# Altium footprint library AG.Modules.PcbLib: 7 footprints
Each footprint in its own frame and in the unit in brackets; x right, y up, seen from the top. Pads: shape width x height; smd on the part's side, far side on the other; paste and mask are expansions set on the pad; w line width, h text height; cw(c..) or ccw(c..) is an arc to the next point about the centre after c.
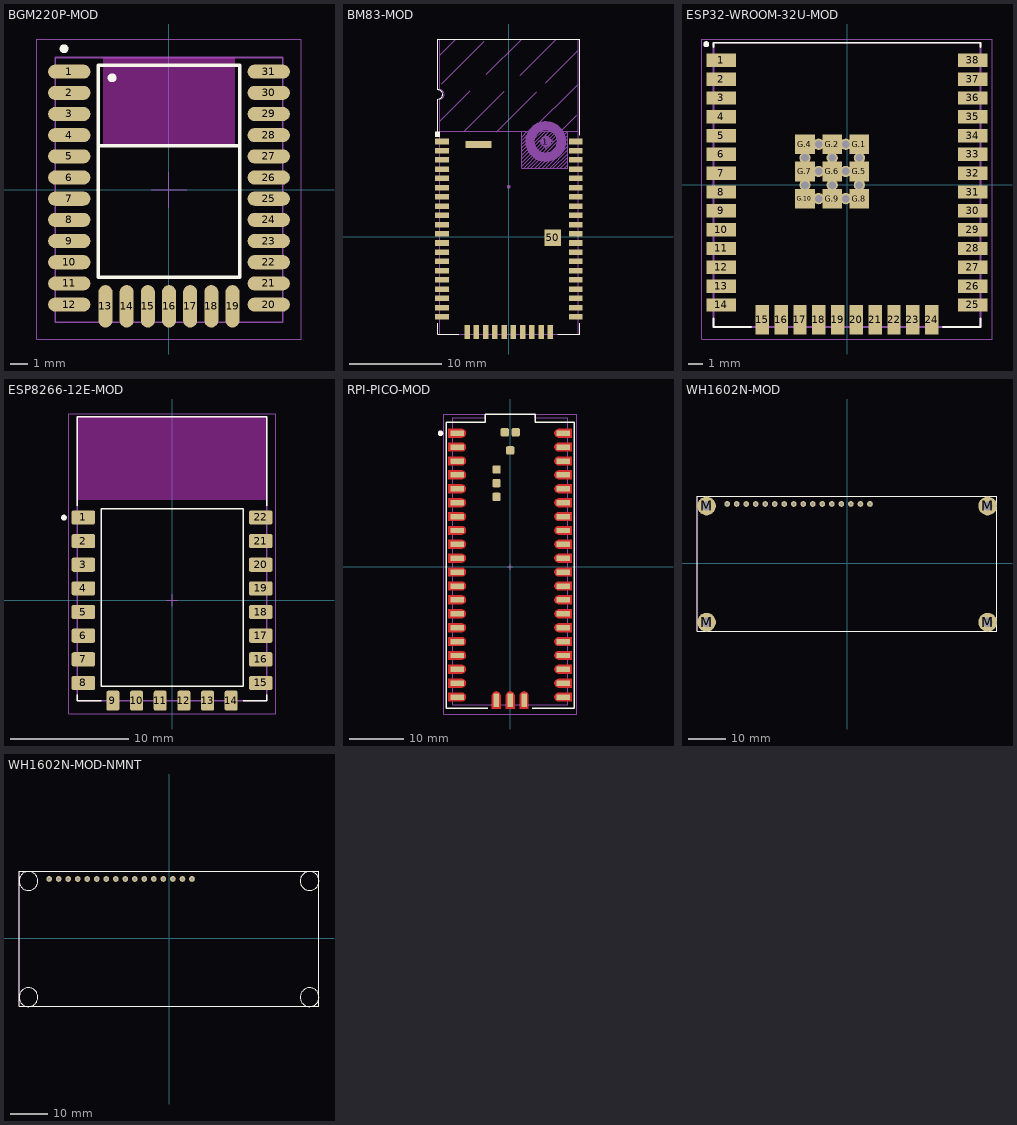
[diagram p0: the footprints below, top view; thin cyan lines are the x and y axes]

## BGM220P-MOD [mm]
height 2.4
pads (31):
  oval 2.4x0.8 smd: 1(-5.65,6.7) 2(-5.65,5.5) 3(-5.65,4.3) 4(-5.65,3.1) 5(-5.65,1.9) 6(-5.65,0.7) 7(-5.65,-0.5) 8(-5.65,-1.7) 9(-5.65,-2.9) 10(-5.65,-4.1) 11(-5.65,-5.3) 12(-5.65,-6.5) 20(5.65,-6.5) 21(5.65,-5.3) 22(5.65,-4.1) 23(5.65,-2.9) 24(5.65,-1.7) 25(5.65,-0.5) 26(5.65,0.7) 27(5.65,1.9) 28(5.65,3.1) 29(5.65,4.3) 30(5.65,5.5) 31(5.65,6.7)
  oval 0.8x2.4 smd: 13(-3.6,-6.6) 14(-2.4,-6.6) 15(-1.2,-6.6) 16(0,-6.6) 17(1.2,-6.6) 18(2.4,-6.6) 19(3.6,-6.6)
Top Overlay:
  circle w0.25: c-5.95,8 r0.125
  circle w0.25: c-3.225,6.35 r0.125
  lines w0.2: -4,2.5 4,2.5 ; -4,-4.95 4,-4.95 4,7.05 -4,7.05 -4,-4.95
Keep-Out Layer:
  rectangle: -3.75,2.6 3.75,7.5
Mechanical 13:
  lines w0.1: -6.45,-7.5 6.45,-7.5 6.45,7.5 -6.45,7.5 -6.45,-7.5
Mechanical 15:
  lines w0.051: -1,0 1,0 ; 0,-1 0,1 ; -7.5,-8.45 -7.5,8.55 7.5,8.55 7.5,-8.45 -7.5,-8.45
3D body "BGM220P.STEP": height 2.3, standoff 0.05, extent -6.45,-7.5 6.45,7.5

## BM83-MOD [mm] "BM83 Bluetooth Audio Module"
height 2
pads (54):
  rect 1.5x0.6 smd: 1(-7.25,10.325) 2(-7.25,9.325) 3(-7.25,8.325) 4(-7.25,7.325) 5(-7.25,6.325) 6(-7.25,5.325) 7(-7.25,4.325) 8(-7.25,3.325) 9(-7.25,2.325) 10(-7.25,1.325) 11(-7.25,0.325) 12(-7.25,-0.675) 13(-7.25,-1.675) 14(-7.25,-2.675) 15(-7.25,-3.675) 16(-7.25,-4.675) 17(-7.25,-5.675) 18(-7.25,-6.675) 19(-7.25,-7.675) 20(-7.25,-8.675) 31(7.25,-8.675) 32(7.25,-7.675) 33(7.25,-6.675) 34(7.25,-5.675) 35(7.25,-4.675) 36(7.25,-3.675) 37(7.25,-2.675) 38(7.25,-1.675) 39(7.25,-0.675) 40(7.25,0.325) 41(7.25,1.325) 42(7.25,2.325) 43(7.25,3.325) 44(7.25,4.325) 45(7.25,5.325) 46(7.25,6.325) 47(7.25,7.325) 48(7.25,8.325) 49(7.25,9.325) 50(7.25,10.325)
  round 0.4 on Mech15 mask+0: 1(0,5.425)
  round 1.2 on Mech9: 1(4,10.323)
  rect 0.6x1.5 smd: 21(-4.5,-10.325) 22(-3.5,-10.325) 23(-2.5,-10.325) 24(-1.5,-10.325) 25(-0.5,-10.325) 26(0.5,-10.325) 27(1.5,-10.325) 28(2.5,-10.325) 29(3.5,-10.325) 30(4.5,-10.325)
  rect 2.794x0.762 smd paste-0.762: 50(-3.29,10.006)
  rect 1.778x1.778 smd paste-0.254: 50(4.768,-0.11)
Top Overlay:
  region: -7.45,11.425 -8,11.425 -8,10.825 -7.45,10.825
  lines w0.127: -7.67,-9.375 -7.67,-10.575 -5.4,-10.575 ; -7.67,11.425 -7.67,14.925 ccw(c-7.67,15.425) -7.17,15.425 ccw(c-7.67,15.425) -7.67,15.925 -7.67,21.425 7.67,21.425 7.67,11.025 ; 5.3,-10.575 7.67,-10.575 7.67,-9.375
Mechanical 1:
  lines w0.102: 1.4,7.625 2.913,9.138 5.15,11.375 ; 1.4,10.425 2.388,11.412 ; 1.411,8.436 2.725,9.75 4.4,11.425 ; 1.413,8.838 2.738,10.162 4,11.425 ; 1.413,10.038 2.775,11.4 ; 1.421,8.046 2.713,9.337 4.8,11.425 ; 1.425,9.25 2.725,10.55 3.6,11.425 ; 1.425,9.65 2.738,10.962 3.2,11.425 ; 1.438,10.862 2,11.425 ; 1.6,7.425 3.313,9.138 5.1,10.925 5.563,11.388 ; 2,7.425 3.713,9.137 5.1,10.525 ; 2.4,7.425 4.113,9.137 5.1,10.125 6.4,11.425 ; 2.825,7.45 4.525,9.15 6.4,11.025 ; 3.2,7.425 5.438,9.662 6.375,10.6 ; 4.413,7.437 6.383,9.408 ; 4.838,7.462 6.38,9.005 ; 5.075,10.5 5.988,11.412 ; 5.238,7.462 6.388,8.612 ; 5.413,10.037 6.325,10.95 ; 5.6,7.425 6.4,8.225 ; 6,7.425 6.4,7.825 ; 6.377,10.202 3.6,7.425 4,7.425 6.4,9.825 ; 6.4,11.425 6.4,7.425 1.4,7.425 1.4,11.425 6.4,11.425
  lines w0.127: -7.5,12.539 -4.198,15.841 ; -7.5,19.651 -5.722,21.429 ; -7.246,16.603 -2.674,21.175 ; -4.833,11.425 -0.515,15.743 ; -2.42,17.619 1.39,21.429 ; -1.277,11.396 3.041,15.714 ; 1.234,17.492 5.15,21.408 ; 2.388,11.412 7.451,16.476 ; 4,16.673 7.486,20.159 ; 5.563,11.388 7.341,13.166
Mechanical 9:
  circle w1: c4,10.325 r1.7
  lines w0.127: -7.5,11.425 7.5,11.425 7.5,-10.575 -7.5,-10.575 -7.5,14.925 ccw(c-7.5,15.425) -7,15.425 ccw(c-7.5,15.425) -7.5,15.925 -7.5,21.425 7.5,21.425 7.5,11.225
  lines w0.152: 3.2,10.325 4,10.325 ; 4,9.525 4,10.325 ; 4,11.125 4,10.325 ; 4.8,10.325 4,10.325
  text "BM83" at -1.912,12.666 h0.76
3D body "BM83_Module.step": height 3.14, standoff 0.02, extent -7.5,-10.575 7.5,21.425

## ESP32-WROOM-32U-MOD [mm]
pads (59):
  rect 2x0.9 smd: 1(-8.5,8.41) 2(-8.5,7.14) 3(-8.5,5.87) 4(-8.5,4.6) 5(-8.5,3.33) 6(-8.5,2.06) 7(-8.5,0.79) 8(-8.5,-0.48) 9(-8.5,-1.75) 10(-8.5,-3.02) 11(-8.5,-4.29) 12(-8.5,-5.56) 13(-8.5,-6.83) 14(-8.5,-8.1) 25(8.5,-8.1) 26(8.5,-6.83) 27(8.5,-5.56) 28(8.5,-4.29) 29(8.5,-3.02) 30(8.5,-1.75) 31(8.5,-0.48) 32(8.5,0.79) 33(8.5,2.06) 34(8.5,3.33) 35(8.5,4.6) 36(8.5,5.87) 37(8.5,7.14) 38(8.5,8.41)
  rect 0.9x2 smd: 15(-5.715,-9.1) 16(-4.445,-9.1) 17(-3.175,-9.1) 18(-1.905,-9.1) 19(-0.635,-9.1) 20(0.635,-9.1) 21(1.905,-9.1) 22(3.175,-9.1) 23(4.445,-9.1) 24(5.715,-9.1)
  rect 1.33x1.33 smd: G.1(0.835,2.745) G.2(-1,2.745) G.4(-2.835,2.745) G.5(0.835,0.91) G.6(-1,0.91) G.7(-2.835,0.91) G.8(0.835,-0.925) G.9(-1,-0.925) G.10(-2.835,-0.925)
  round 0.762 hole 0.508: G.11(-0.082,2.745) G.12(-1.917,2.745) G.13(0.835,1.827) G.14(-1,1.827) G.15(-2.835,1.827) G.16(-0.082,0.91) G.17(-1.917,0.91) G.18(0.835,-0.008) G.19(-1,-0.008) G.20(-2.835,-0.008) G.21(-0.082,-0.925) G.22(-1.917,-0.925)
Top Overlay:
  circle w0.2: c-9.5,9.5 r0.1
  lines w0.127: -9,-9 -9,-9.6 -6.49,-9.6 ; -9,9.3 -9,9.6 9,9.6 9,9.3 ; 6.49,-9.6 9,-9.6 9,-9
Mechanical 13:
  circle w0.2: c-9.5,9.5 r0.1
  lines w0.127: -9,-9.6 -9,9.6 9,9.6 9,-9.6 -9,-9.6
Mechanical 15:
  lines w0.05: -9.8,-10.4 -9.8,9.85 9.8,9.85 9.8,-10.4 -9.8,-10.4
3D body "ESP32-WROOM-32U.STEP": height 3.35, standoff 0.05, extent -9,-9.6 9,9.6

## ESP8266-12E-MOD [mm] "RX TXRX MOD WIFI TRACE ANT SMD"
pads (22):
  rrect30% 2x1.2 smd: 1(-7.5,7) 2(-7.5,5) 3(-7.5,3) 4(-7.5,1) 5(-7.5,-1) 6(-7.5,-3) 7(-7.5,-5) 8(-7.5,-7) 15(7.5,-7) 16(7.5,-5) 17(7.5,-3) 18(7.5,-1) 19(7.5,1) 20(7.5,3) 21(7.5,5) 22(7.5,7)
  rrect30% 1.1x1.7 smd: 9(-5,-8.5) 10(-3,-8.5) 11(-1,-8.5) 12(1,-8.5) 13(3,-8.5) 14(5,-8.5)
Top Overlay:
  circle w0.25: c-9.144,6.985 r0.125
  lines w0.127: -8,-8 -8,-8.5 -6,-8.5 ; -8,8 -8,15.5 8,15.5 8,8 ; 6,-8.5 8,-8.5 8,-8 ; -6,-7.26 6,-7.26 6,7.74 -6,7.74 -6,-7.26
Keep-Out Layer:
  region: 8,8.51 -8.009,8.51 -8.009,15.5 8,15.5
  region: 8,8.51 -8.009,8.51 -8.009,15.5 8,15.5
Mechanical 13:
  lines w0.127: -8,-8.5 8,-8.5 8,15.5 -8,15.5 -8,-8.5
Mechanical 15:
  lines w0.05: -8.75,-9.625 8.75,-9.625 8.75,15.75 -8.75,15.75 -8.75,-9.625
  lines w0.102: -0.5,0 0.5,0 ; 0,-0.5 0,0.5
3D body "ESP8266-12E-ESP-12E--3DModel-STEP-1.STEP": height 3, standoff 0, extent -8.001,-8.509 7.999,15.491

## RPI-PICO-MOD [mm] "RASPBERRY PI PICO RP2040 BOARD"
height 1
pads (49):
  rect 2.5x1 smd mask+0.102: 1(-9.69,24.415) 2(-9.69,21.875) 4(-9.69,16.795) 5(-9.69,14.255) 6(-9.69,11.715) 7(-9.69,9.175) 8(-9.69,6.635) 9(-9.69,4.095) 10(-9.69,1.555) 11(-9.69,-0.985) 12(-9.69,-3.525) 13(-9.69,-6.065) 14(-9.69,-8.605) 15(-9.69,-11.145) 16(-9.69,-13.685) 17(-9.69,-16.225) 18(-9.69,-18.765) 19(-9.69,-21.305) 20(-9.69,-23.845)
  rrect25% 2.5x1 smd mask+0.102: 3(-9.69,19.335)
  rect 2.5x1 smd: 21(9.69,-23.845) 22(9.69,-21.305) 23(9.69,-18.765) 24(9.69,-16.225) 25(9.69,-13.685) 26(9.69,-11.145) 27(9.69,-8.605) 28(9.69,-6.065) 29(9.69,-3.525) 30(9.69,-0.985) 31(9.69,1.555) 32(9.69,4.095) 33(9.69,6.635) 34(9.69,9.175) 35(9.69,11.715) 36(9.69,14.255) 37(9.69,16.795) 38(9.69,19.335) 39(9.69,21.875) 40(9.69,24.415)
  rect 1x2.5 smd: 41(-2.54,-24.415) 42(0,-24.415) 43(2.54,-24.415)
  rrect30% 1.5x1.5 smd: 44(0.01,21.292) 45(1.01,24.592) 46(-0.99,24.592) 47(-2.49,17.792) 48(-2.49,15.292) 49(-2.49,12.792)
Top Layer:
  region: -1.74,-25.999 -3.34,-25.999 -3.34,-23.599 -3.34,-23.494 -3.285,-23.29 -3.18,-23.108 -3.031,-22.959 -2.849,-22.854 -2.645,-22.799 -2.435,-22.799 -2.231,-22.854 -2.049,-22.959 -1.9,-23.108 -1.795,-23.29 -1.74,-23.494 -1.74,-23.599
  region: 0.8,-25.999 -0.8,-25.999 -0.8,-23.599 -0.8,-23.494 -0.745,-23.29 -0.64,-23.108 -0.491,-22.959 -0.309,-22.854 -0.105,-22.799 0.105,-22.799 0.309,-22.854 0.491,-22.959 0.64,-23.108 0.745,-23.29 0.8,-23.494 0.8,-23.599
  region: 3.34,-25.999 1.74,-25.999 1.74,-23.599 1.74,-23.494 1.795,-23.29 1.9,-23.108 2.049,-22.959 2.231,-22.854 2.435,-22.799 2.645,-22.799 2.849,-22.854 3.031,-22.959 3.18,-23.108 3.285,-23.29 3.34,-23.494 3.34,-23.599
  region: -11.292,-24.629 -11.292,-23.029 -8.892,-23.029 -8.787,-23.029 -8.583,-23.084 -8.401,-23.189 -8.252,-23.338 -8.147,-23.52 -8.092,-23.724 -8.092,-23.934 -8.147,-24.138 -8.252,-24.32 -8.401,-24.469 -8.583,-24.574 -8.787,-24.629 -8.892,-24.629
  region: -11.292,-22.089 -11.292,-20.489 -8.892,-20.489 -8.787,-20.489 -8.583,-20.544 -8.401,-20.649 -8.252,-20.798 -8.147,-20.98 -8.092,-21.184 -8.092,-21.394 -8.147,-21.598 -8.252,-21.78 -8.401,-21.929 -8.583,-22.034 -8.787,-22.089 -8.892,-22.089
  region: -11.292,-19.549 -11.292,-17.949 -8.892,-17.949 -8.787,-17.949 -8.583,-18.004 -8.401,-18.109 -8.252,-18.258 -8.147,-18.44 -8.092,-18.644 -8.092,-18.854 -8.147,-19.058 -8.252,-19.24 -8.401,-19.389 -8.583,-19.494 -8.787,-19.549 -8.892,-19.549
  region: -11.292,-17.009 -11.292,-15.409 -8.892,-15.409 -8.787,-15.409 -8.583,-15.464 -8.401,-15.569 -8.252,-15.718 -8.147,-15.9 -8.092,-16.104 -8.092,-16.314 -8.147,-16.518 -8.252,-16.7 -8.401,-16.849 -8.583,-16.954 -8.787,-17.009 -8.892,-17.009
  region: -11.292,-14.469 -11.292,-12.869 -8.892,-12.869 -8.787,-12.869 -8.583,-12.924 -8.401,-13.029 -8.252,-13.178 -8.147,-13.36 -8.092,-13.564 -8.092,-13.774 -8.147,-13.978 -8.252,-14.16 -8.401,-14.309 -8.583,-14.414 -8.787,-14.469 -8.892,-14.469
  region: -11.292,-11.929 -11.292,-10.329 -8.892,-10.329 -8.787,-10.329 -8.583,-10.384 -8.401,-10.489 -8.252,-10.638 -8.147,-10.82 -8.092,-11.024 -8.092,-11.234 -8.147,-11.438 -8.252,-11.62 -8.401,-11.769 -8.583,-11.874 -8.787,-11.929 -8.892,-11.929
  region: -11.292,-9.389 -11.292,-7.789 -8.892,-7.789 -8.787,-7.789 -8.583,-7.844 -8.401,-7.949 -8.252,-8.098 -8.147,-8.28 -8.092,-8.484 -8.092,-8.694 -8.147,-8.898 -8.252,-9.08 -8.401,-9.229 -8.583,-9.334 -8.787,-9.389 -8.892,-9.389
  region: -11.292,-6.849 -11.292,-5.249 -8.892,-5.249 -8.787,-5.249 -8.583,-5.304 -8.401,-5.409 -8.252,-5.558 -8.147,-5.74 -8.092,-5.944 -8.092,-6.154 -8.147,-6.358 -8.252,-6.54 -8.401,-6.689 -8.583,-6.794 -8.787,-6.849 -8.892,-6.849
  region: -11.292,-4.309 -11.292,-2.709 -8.892,-2.709 -8.787,-2.709 -8.583,-2.764 -8.401,-2.869 -8.252,-3.018 -8.147,-3.2 -8.092,-3.404 -8.092,-3.614 -8.147,-3.818 -8.252,-4 -8.401,-4.149 -8.583,-4.254 -8.787,-4.309 -8.892,-4.309
  region: -11.292,-1.769 -11.292,-0.169 -8.892,-0.169 -8.787,-0.169 -8.583,-0.224 -8.401,-0.329 -8.252,-0.478 -8.147,-0.66 -8.092,-0.864 -8.092,-1.074 -8.147,-1.278 -8.252,-1.46 -8.401,-1.609 -8.583,-1.714 -8.787,-1.769 -8.892,-1.769
  region: -11.292,0.771 -11.292,2.371 -8.892,2.371 -8.787,2.371 -8.583,2.316 -8.401,2.211 -8.252,2.062 -8.147,1.88 -8.092,1.676 -8.092,1.466 -8.147,1.262 -8.252,1.08 -8.401,0.931 -8.583,0.826 -8.787,0.771 -8.892,0.771
  region: -11.292,3.311 -11.292,4.911 -8.892,4.911 -8.787,4.911 -8.583,4.856 -8.401,4.751 -8.252,4.602 -8.147,4.42 -8.092,4.216 -8.092,4.006 -8.147,3.802 -8.252,3.62 -8.401,3.471 -8.583,3.366 -8.787,3.311 -8.892,3.311
  region: -11.292,5.851 -11.292,7.451 -8.892,7.451 -8.787,7.451 -8.583,7.396 -8.401,7.291 -8.252,7.142 -8.147,6.96 -8.092,6.756 -8.092,6.546 -8.147,6.342 -8.252,6.16 -8.401,6.011 -8.583,5.906 -8.787,5.851 -8.892,5.851
  region: -11.292,8.391 -11.292,9.991 -8.892,9.991 -8.787,9.991 -8.583,9.936 -8.401,9.831 -8.252,9.682 -8.147,9.5 -8.092,9.296 -8.092,9.086 -8.147,8.882 -8.252,8.7 -8.401,8.551 -8.583,8.446 -8.787,8.391 -8.892,8.391
  region: -11.292,10.931 -11.292,12.531 -8.892,12.531 -8.787,12.531 -8.583,12.476 -8.401,12.371 -8.252,12.222 -8.147,12.04 -8.092,11.836 -8.092,11.626 -8.147,11.422 -8.252,11.24 -8.401,11.091 -8.583,10.986 -8.787,10.931 -8.892,10.931
  region: -11.292,13.471 -11.292,15.071 -8.892,15.071 -8.787,15.071 -8.583,15.016 -8.401,14.911 -8.252,14.762 -8.147,14.58 -8.092,14.376 -8.092,14.166 -8.147,13.962 -8.252,13.78 -8.401,13.631 -8.583,13.526 -8.787,13.471 -8.892,13.471
  region: -11.292,16.011 -11.292,17.611 -8.892,17.611 -8.787,17.611 -8.583,17.556 -8.401,17.451 -8.252,17.302 -8.147,17.12 -8.092,16.916 -8.092,16.706 -8.147,16.502 -8.252,16.32 -8.401,16.171 -8.583,16.066 -8.787,16.011 -8.892,16.011
  region: -11.292,18.551 -11.292,20.151 -8.892,20.151 -8.787,20.151 -8.583,20.096 -8.401,19.991 -8.252,19.842 -8.147,19.66 -8.092,19.456 -8.092,19.246 -8.147,19.042 -8.252,18.86 -8.401,18.711 -8.583,18.606 -8.787,18.551 -8.892,18.551
  region: -11.292,21.091 -11.292,22.691 -8.892,22.691 -8.787,22.691 -8.583,22.636 -8.401,22.531 -8.252,22.382 -8.147,22.2 -8.092,21.996 -8.092,21.786 -8.147,21.582 -8.252,21.4 -8.401,21.251 -8.583,21.146 -8.787,21.091 -8.892,21.091
  region: -11.292,23.631 -11.292,25.231 -8.892,25.231 -8.787,25.231 -8.583,25.176 -8.401,25.071 -8.252,24.922 -8.147,24.74 -8.092,24.536 -8.092,24.326 -8.147,24.122 -8.252,23.94 -8.401,23.791 -8.583,23.686 -8.787,23.631 -8.892,23.631
  region: 11.292,23.631 11.292,25.231 8.892,25.231 8.787,25.231 8.583,25.176 8.401,25.071 8.252,24.922 8.147,24.74 8.092,24.536 8.092,24.326 8.147,24.122 8.252,23.94 8.401,23.791 8.583,23.686 8.787,23.631 8.892,23.631
  region: 11.292,21.091 11.292,22.691 8.892,22.691 8.787,22.691 8.583,22.636 8.401,22.531 8.252,22.382 8.147,22.2 8.092,21.996 8.092,21.786 8.147,21.582 8.252,21.4 8.401,21.251 8.583,21.146 8.787,21.091 8.892,21.091
  region: 11.292,18.551 11.292,20.151 8.892,20.151 8.787,20.151 8.583,20.096 8.401,19.991 8.252,19.842 8.147,19.66 8.092,19.456 8.092,19.246 8.147,19.042 8.252,18.86 8.401,18.711 8.583,18.606 8.787,18.551 8.892,18.551
  region: 11.292,16.011 11.292,17.611 8.892,17.611 8.787,17.611 8.583,17.556 8.401,17.451 8.252,17.302 8.147,17.12 8.092,16.916 8.092,16.706 8.147,16.502 8.252,16.32 8.401,16.171 8.583,16.066 8.787,16.011 8.892,16.011
  region: 11.292,13.471 11.292,15.071 8.892,15.071 8.787,15.071 8.583,15.016 8.401,14.911 8.252,14.762 8.147,14.58 8.092,14.376 8.092,14.166 8.147,13.962 8.252,13.78 8.401,13.631 8.583,13.526 8.787,13.471 8.892,13.471
  region: 11.292,10.931 11.292,12.531 8.892,12.531 8.787,12.531 8.583,12.476 8.401,12.371 8.252,12.222 8.147,12.04 8.092,11.836 8.092,11.626 8.147,11.422 8.252,11.24 8.401,11.091 8.583,10.986 8.787,10.931 8.892,10.931
  region: 11.292,8.391 11.292,9.991 8.892,9.991 8.787,9.991 8.583,9.936 8.401,9.831 8.252,9.682 8.147,9.5 8.092,9.296 8.092,9.086 8.147,8.882 8.252,8.7 8.401,8.551 8.583,8.446 8.787,8.391 8.892,8.391
  region: 11.292,5.851 11.292,7.451 8.892,7.451 8.787,7.451 8.583,7.396 8.401,7.291 8.252,7.142 8.147,6.96 8.092,6.756 8.092,6.546 8.147,6.342 8.252,6.16 8.401,6.011 8.583,5.906 8.787,5.851 8.892,5.851
  region: 11.292,3.311 11.292,4.911 8.892,4.911 8.787,4.911 8.583,4.856 8.401,4.751 8.252,4.602 8.147,4.42 8.092,4.216 8.092,4.006 8.147,3.802 8.252,3.62 8.401,3.471 8.583,3.366 8.787,3.311 8.892,3.311
  region: 11.292,0.771 11.292,2.371 8.892,2.371 8.787,2.371 8.583,2.316 8.401,2.211 8.252,2.062 8.147,1.88 8.092,1.676 8.092,1.466 8.147,1.262 8.252,1.08 8.401,0.931 8.583,0.826 8.787,0.771 8.892,0.771
  region: 11.292,-1.769 11.292,-0.169 8.892,-0.169 8.787,-0.169 8.583,-0.224 8.401,-0.329 8.252,-0.478 8.147,-0.66 8.092,-0.864 8.092,-1.074 8.147,-1.278 8.252,-1.46 8.401,-1.609 8.583,-1.714 8.787,-1.769 8.892,-1.769
  region: 11.292,-4.309 11.292,-2.709 8.892,-2.709 8.787,-2.709 8.583,-2.764 8.401,-2.869 8.252,-3.018 8.147,-3.2 8.092,-3.404 8.092,-3.614 8.147,-3.818 8.252,-4 8.401,-4.149 8.583,-4.254 8.787,-4.309 8.892,-4.309
  region: 11.292,-6.849 11.292,-5.249 8.892,-5.249 8.787,-5.249 8.583,-5.304 8.401,-5.409 8.252,-5.558 8.147,-5.74 8.092,-5.944 8.092,-6.154 8.147,-6.358 8.252,-6.54 8.401,-6.689 8.583,-6.794 8.787,-6.849 8.892,-6.849
  region: 11.292,-9.389 11.292,-7.789 8.892,-7.789 8.787,-7.789 8.583,-7.844 8.401,-7.949 8.252,-8.098 8.147,-8.28 8.092,-8.484 8.092,-8.694 8.147,-8.898 8.252,-9.08 8.401,-9.229 8.583,-9.334 8.787,-9.389 8.892,-9.389
  region: 11.292,-11.929 11.292,-10.329 8.892,-10.329 8.787,-10.329 8.583,-10.384 8.401,-10.489 8.252,-10.638 8.147,-10.82 8.092,-11.024 8.092,-11.234 8.147,-11.438 8.252,-11.62 8.401,-11.769 8.583,-11.874 8.787,-11.929 8.892,-11.929
  region: 11.292,-14.469 11.292,-12.869 8.892,-12.869 8.787,-12.869 8.583,-12.924 8.401,-13.029 8.252,-13.178 8.147,-13.36 8.092,-13.564 8.092,-13.774 8.147,-13.978 8.252,-14.16 8.401,-14.309 8.583,-14.414 8.787,-14.469 8.892,-14.469
  region: 11.292,-17.009 11.292,-15.409 8.892,-15.409 8.787,-15.409 8.583,-15.464 8.401,-15.569 8.252,-15.718 8.147,-15.9 8.092,-16.104 8.092,-16.314 8.147,-16.518 8.252,-16.7 8.401,-16.849 8.583,-16.954 8.787,-17.009 8.892,-17.009
  region: 11.292,-19.549 11.292,-17.949 8.892,-17.949 8.787,-17.949 8.583,-18.004 8.401,-18.109 8.252,-18.258 8.147,-18.44 8.092,-18.644 8.092,-18.854 8.147,-19.058 8.252,-19.24 8.401,-19.389 8.583,-19.494 8.787,-19.549 8.892,-19.549
  region: 11.292,-22.089 11.292,-20.489 8.892,-20.489 8.787,-20.489 8.583,-20.544 8.401,-20.649 8.252,-20.798 8.147,-20.98 8.092,-21.184 8.092,-21.394 8.147,-21.598 8.252,-21.78 8.401,-21.929 8.583,-22.034 8.787,-22.089 8.892,-22.089
  region: 11.292,-24.629 11.292,-23.029 8.892,-23.029 8.787,-23.029 8.583,-23.084 8.401,-23.189 8.252,-23.338 8.147,-23.52 8.092,-23.724 8.092,-23.934 8.147,-24.138 8.252,-24.32 8.401,-24.469 8.583,-24.574 8.787,-24.629 8.892,-24.629
Top Overlay:
  circle w0.508: c-12.738,24.415 r0.254
  lines w0.254: -4.102,-25.877 -11.684,-25.877 -11.684,26.416 -4.572,26.416 -4.572,27.94 4.572,27.94 4.572,26.416 11.684,26.416 11.684,-25.877 4.026,-25.877
Mechanical 13:
  lines w0.1: -10.49,-25.208 -10.49,27.218 -4.572,27.218 -4.572,27.94 -3.048,27.94 4.572,27.94 4.572,27.218 10.51,27.218 10.51,-25.208 -10.49,-25.208
Mechanical 15:
  lines w0.05: -0.5,0 0.5,0 ; 0,-0.5 0,0.5 ; -12.192,-26.924 -12.192,27.94 12.192,27.94 12.192,-26.924 -12.192,-26.924
3D body "Raspberry Pi Pico-R3.STEP": height 3.69, standoff 0, extent -10.49,-25.208 10.51,27.218

## WH1602N-MOD [mm] "Dot Matrix Character LCD Module 16x2"
height 13.5
pads (20):
  round 1.524 hole 0.762: 1(-32,15.77) 2(-29.46,15.77) 3(-26.92,15.77) 4(-24.38,15.77) 5(-21.84,15.77) 6(-19.3,15.77) 7(-16.76,15.77) 8(-14.22,15.77) 9(-11.68,15.77) 10(-9.14,15.77) 11(-6.6,15.77) 12(-4.06,15.77) 13(-1.52,15.77) 14(1.02,15.77) 15(3.56,15.77) 16(6.1,15.77)
  round 5 hole 2.5: M(-37.5,-15.77) M(37.5,-15.77) M(37.5,15.23)
  round 5 hole 2.5 unplated: M(-37.5,15.23)
Top Overlay:
  lines w0.254: 39.96,-18.23 -40.04,-18.23 -40.04,17.77 39.96,17.77 39.96,-18.23 ; 39.96,-18.23 39.96,-18.23
Mechanical 13:
  lines w0.1: 39.96,-18.23 -40.04,-18.23 -40.04,17.77 39.96,17.77 39.96,-18.23 ; 39.96,-18.23 39.96,-18.23
Mechanical 15:
  lines w0.05: -40.04,-18.23 39.96,-18.23 ; -40.04,17.77 39.96,17.77 39.96,-18.23 ; 39.96,-18.23 39.96,-18.23
3D body "NHD-0216K1Z-FSW.stp": height 15.2, standoff 2.9, extent -40.04,-18.23 39.96,17.77

## WH1602N-MOD-NMNT [mil] "Dot Matrix Character LCD Module 16x2 No Mounting Holes"
height 531.5
pads (16):
  round 60 hole 30: 1(-1259.84,620.87) 2(-1159.84,620.87) 3(-1059.84,620.87) 4(-959.84,620.87) 5(-859.84,620.87) 6(-759.84,620.87) 7(-659.84,620.87) 8(-559.84,620.87) 9(-459.84,620.87) 10(-359.84,620.87) 11(-259.84,620.87) 12(-159.84,620.87) 13(-59.84,620.87) 14(40.16,620.87) 15(140.16,620.87) 16(240.16,620.87)
Top Overlay:
  circle w10: c1476.38,-620.87 r98.43
  circle w10: c1476.38,599.61 r98.43
  circle w10: c-1476.38,599.61 r98.43
  circle w10: c-1476.38,-620.87 r98.43
  lines w10: 1573.23,-717.72 -1576.38,-717.72 -1576.38,699.61 1573.23,699.61 1573.23,-717.72 ; 1573.23,-717.72 1573.23,-717.72
Mechanical 13:
  lines w3.94: 1573.23,-717.72 -1576.38,-717.72 -1576.38,699.61 1573.23,699.61 1573.23,-717.72 ; 1573.23,-717.72 1573.23,-717.72
Mechanical 15:
  lines w1.97: -1576.38,-717.72 1573.23,-717.72 ; -1576.38,699.61 1573.23,699.61 1573.23,-717.72 ; 1573.23,-717.72 1573.23,-717.72
3D body "NHD-0216K1Z-FSW.stp": height 598.43, standoff 114.17, extent -1576.38,-717.72 1573.23,699.61